# EAGLE library part CP2102 (library mastrogippo)
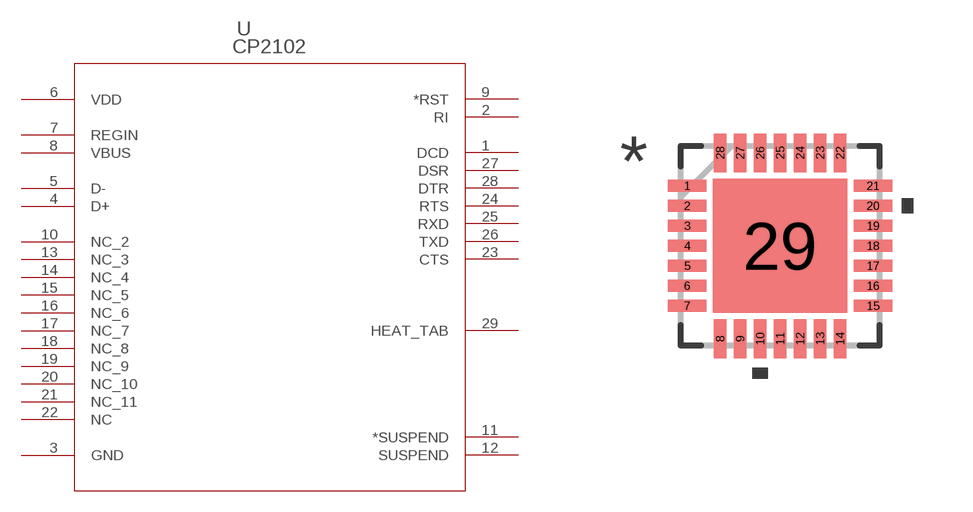
[diagram p15: symbol with the pads of QFN28N5X5-0P5P; footprint QFN28N5X5-0P5P]

Designator prefix -

## CP2102 (MFG: CP2102; PARTDESC: SINGLE-CHIP USB TO UART BRIDGE, QFN28, RoHS.; PARTNUMBER: CP2102; VALUE: CP2102)  [QFN28N5X5-0P5P]
1  DCD  pas
2  RI  pas
3  GND  pas
4  D+  pas
5  D-  pas
6  VDD  pas
7  REGIN  pas
8  VBUS  pas
9  *RST  pas
10  NC_2  pas
11  *SUSPEND  pas
12  SUSPEND  pas
13  NC_3  pas
14  NC_4  pas
15  NC_5  pas
16  NC_6  pas
17  NC_7  pas
18  NC_8  pas
19  NC_9  pas
20  NC_10  pas
21  NC_11  pas
22  NC  pas
23  CTS  pas
24  RTS  pas
25  RXD  pas
26  TXD  pas
27  DSR  pas
28  DTR  pas
29  HEAT_TAB  pas

## Footprint QFN28N5X5-0P5P (pad centres in mm)
smd 0.965 x 0.305: 1 -2.324,1.5; 2 -2.324,1; 3 -2.324,0.5; 4 -2.324,0; 5 -2.324,-0.5; 6 -2.324,-1; 7 -2.324,-1.5; 15 2.324,-1.5; 16 2.324,-1; 17 2.324,-0.5; 18 2.324,0; 19 2.324,0.5; 20 2.324,1; 21 2.324,1.5
smd 0.305 x 0.965: 8 -1.5,-2.324; 9 -1,-2.324; 10 -0.5,-2.324; 11 0,-2.324; 12 0.5,-2.324; 13 1,-2.324; 14 1.5,-2.324; 22 1.5,2.324; 23 1,2.324; 24 0.5,2.324; 25 0,2.324; 26 -0.5,2.324; 27 -1,2.324; 28 -1.5,2.324
smd 3.353 x 3.353: 29 0,0